# Altium footprint library ZH1.5.PcbLib: 1 footprints
Each footprint in its own frame and in the unit in brackets; x right, y up, seen from the top. Pads: shape width x height; smd on the part's side, far side on the other; paste and mask are expansions set on the pad; w line width, h text height; cw(c..) or ccw(c..) is an arc to the next point about the centre after c.
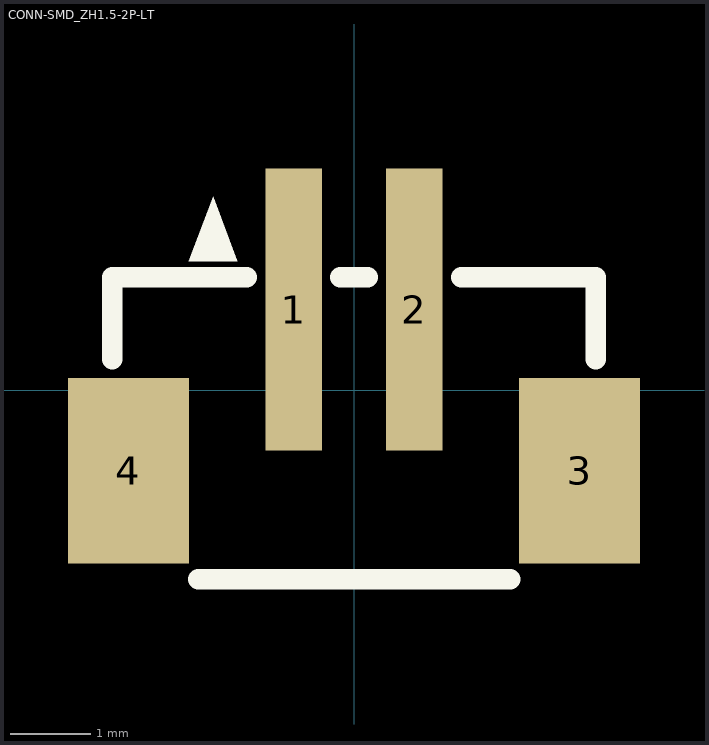
[diagram p0: the footprint, top view; thin cyan lines are the x and y axes]

## CONN-SMD_ZH1.5-2P-LT [mm]
pads (4):
  rect 0.7x3.5 smd: 1(-0.75,1) 2(0.75,1)
  rect 1.5x2.3 smd: 3(2.8,-1) 4(-2.8,-1)
Top Overlay:
  region: -2.05,1.6 -1.45,1.6 -1.75,2.4
  lines w0.254: -3,0.381 -3,1.4 -1.331,1.4 ; -1.937,-2.35 1.937,-2.35 ; -0.169,1.4 0.169,1.4 0,1.4 ; 1.331,1.4 3,1.4 3,0.381